# EAGLE library part PN532 (library Nexperia)
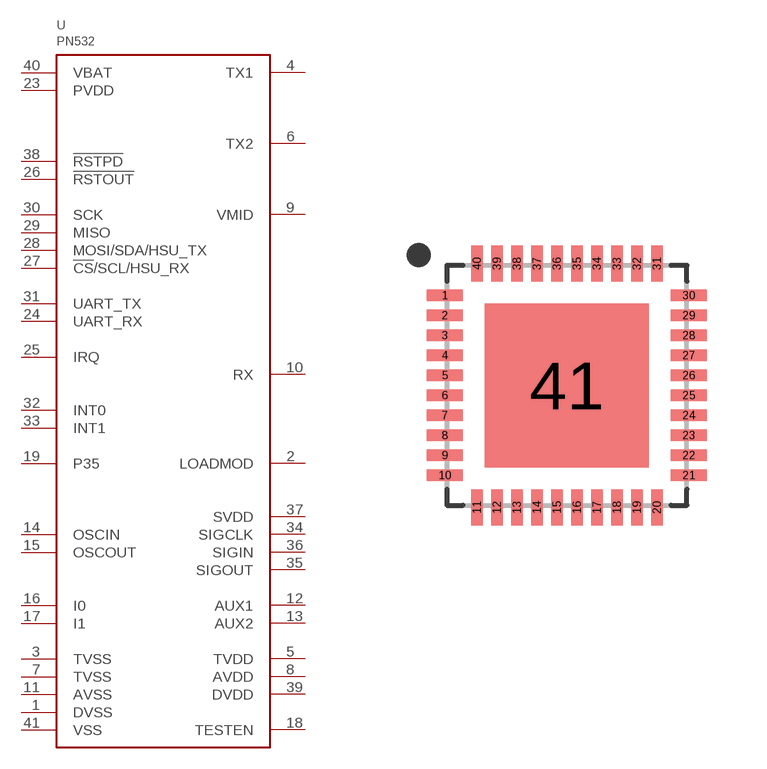
[diagram p1: symbol with the pads of QFN40; footprint QFN40]

Designator prefix U

## PN532  [QFN40]
1  DVSS
2  LOADMOD
3  TVSS
4  TX1
5  TVDD
6  TX2
7  TVSS
8  AVDD
9  VMID
10  RX
11  AVSS
12  AUX1
13  AUX2
14  OSCIN
15  OSCOUT
16  I0
17  I1
18  TESTEN
19  P35
23  PVDD
24  UART_RX
25  IRQ
26  !RSTOUT
27  !CS!/SCL/HSU_RX
28  MOSI/SDA/HSU_TX
29  MISO
30  SCK
31  UART_TX
32  INT0
33  INT1
34  SIGCLK
35  SIGOUT
36  SIGIN
37  SVDD
38  !RSTPD
39  DVDD
40  VBAT
41  VSS

## Footprint QFN40 (pad centres in mm)
smd 0.9 x 0.29: 1 -3.05,2.25; 2 -3.05,1.75; 3 -3.05,1.25; 4 -3.05,0.75; 5 -3.05,0.25; 6 -3.05,-0.25; 7 -3.05,-0.75; 8 -3.05,-1.25; 9 -3.05,-1.75; 10 -3.05,-2.25; 21 3.05,-2.25; 22 3.05,-1.75; 23 3.05,-1.25; 24 3.05,-0.75; 25 3.05,-0.25; 26 3.05,0.25; 27 3.05,0.75; 28 3.05,1.25; 29 3.05,1.75; 30 3.05,2.25
smd 0.29 x 0.9: 11 -2.25,-3.05; 12 -1.75,-3.05; 13 -1.25,-3.05; 14 -0.75,-3.05; 15 -0.25,-3.05; 16 0.25,-3.05; 17 0.75,-3.05; 18 1.25,-3.05; 19 1.75,-3.05; 20 2.25,-3.05; 31 2.25,3.05; 32 1.75,3.05; 33 1.25,3.05; 34 0.75,3.05; 35 0.25,3.05; 36 -0.25,3.05; 37 -0.75,3.05; 38 -1.25,3.05; 39 -1.75,3.05; 40 -2.25,3.05
smd 4.1 x 4.1: 41 0,0